# EAGLE library part DS2404 (library 1wire)
Econo RAM Time Chip with Onewire and SPI interface This chip provides a real time clock and a battery operated/back-upped 4096-Bit SRAM. In addition, there is a interval timer and a power-cycle counter. In addition to the onewire interface, this chip has a 3-Wire (SPI) Interface which operates up to 2MBaud speed. When this interface is used, the 1W pin may be used as a PIO pin. The RAM is dual-ported and both the SPI interface and the Onewire interface may be used at the same time, too, which makes this chip also useful as a SPI/Onewire interface chip with internal 4096-Bit data buffer. Notes: This chip has a lot of operation modes. Please read the datasheet if you plan to use it. Author: Orginal device and description from Giovanni Varasano <giovanni.varasano@fastwebnet.it> Improved by Jan Kandziora <jjj@gmx.de>
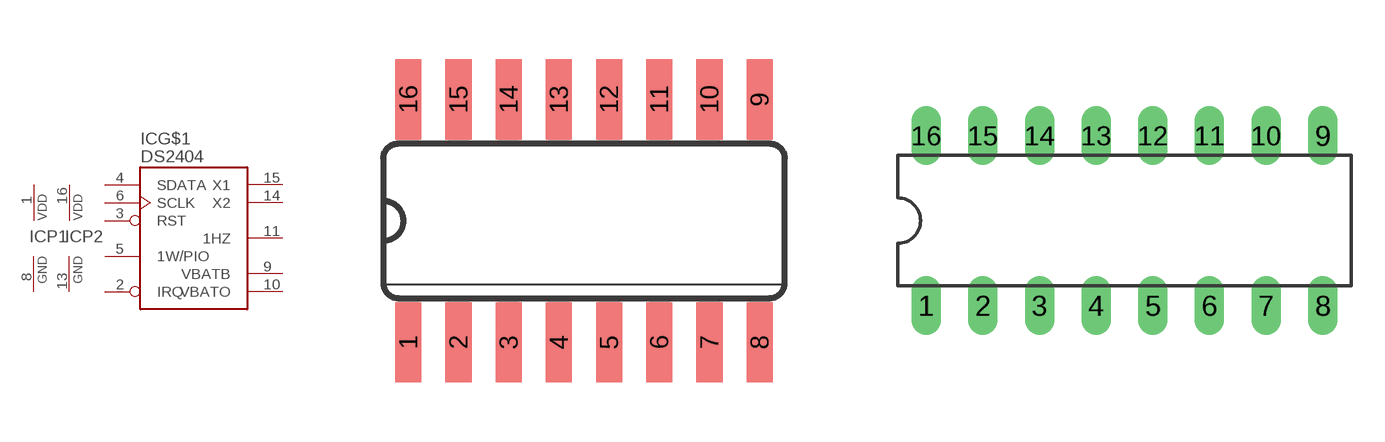
[diagram p6: symbol with the pads of SO16; footprints SO16, DIL16]

Designator prefix IC; gates G$1=DS2404 P1=VDD-GND P2=VDD-GND

## DS2404S  [SO16]
1  P1:VDD  pwr
2  G$1:IRQ  out
3  G$1:RST  in
4  G$1:SDATA
5  G$1:1W/PIO  oc
6  G$1:SCLK  in
8  P1:GND  pwr
9  G$1:VBATB  pwr
10  G$1:VBATO  pwr
11  G$1:1HZ  out
13  P2:GND  pwr
14  G$1:X2  pas
15  G$1:X1  pas
16  P2:VDD  pwr

## DS2404  [DIL16]
Pads as for SO16

## DS2404B  [SSOP16]
Pads as for SO16

## Footprint SO16 (pad centres in mm)
Small Outline Package
smd 0.66 x 2.032: 1 -4.445,-3.073; 2 -3.175,-3.073; 3 -1.905,-3.073; 4 -0.635,-3.073; 5 0.635,-3.073; 6 1.905,-3.073; 7 3.175,-3.073; 8 4.445,-3.073; 9 4.445,3.073; 10 3.175,3.073; 11 1.905,3.073; 12 0.635,3.073; 13 -0.635,3.073; 14 -1.905,3.073; 15 -3.175,3.073; 16 -4.445,3.073

## Footprint DIL16 (pad centres in mm)
Dual In Line Package
drill 0.813 long: 1 -8.89,-3.81; 2 -6.35,-3.81; 3 -3.81,-3.81; 4 -1.27,-3.81; 5 1.27,-3.81; 6 3.81,-3.81; 7 6.35,-3.81; 8 8.89,-3.81; 9 8.89,3.81; 10 6.35,3.81; 11 3.81,3.81; 12 1.27,3.81; 13 -1.27,3.81; 14 -3.81,3.81; 15 -6.35,3.81; 16 -8.89,3.81

## Footprint SSOP16 (pad centres in mm)
Shrink Small Outline Package package type SS
smd 0.4 x 1.5: 1 -2.275,-3.625; 2 -1.625,-3.625; 3 -0.975,-3.625; 4 -0.325,-3.625; 5 0.325,-3.625; 6 0.975,-3.625; 7 1.625,-3.625; 8 2.275,-3.625; 9 2.275,3.625; 10 1.625,3.625; 11 0.975,3.625; 12 0.325,3.625; 13 -0.325,3.625; 14 -0.975,3.625; 15 -1.625,3.625; 16 -2.275,3.625